# Altium footprint library Trans_Infineon_IRF7821PBF_eec_IPC_B.PcbLib: 1 footprints
Each footprint in its own frame and in the unit in brackets; x right, y up, seen from the top. Pads: shape width x height; smd on the part's side, far side on the other; paste and mask are expansions set on the pad; w line width, h text height; cw(c..) or ccw(c..) is an arc to the next point about the centre after c.
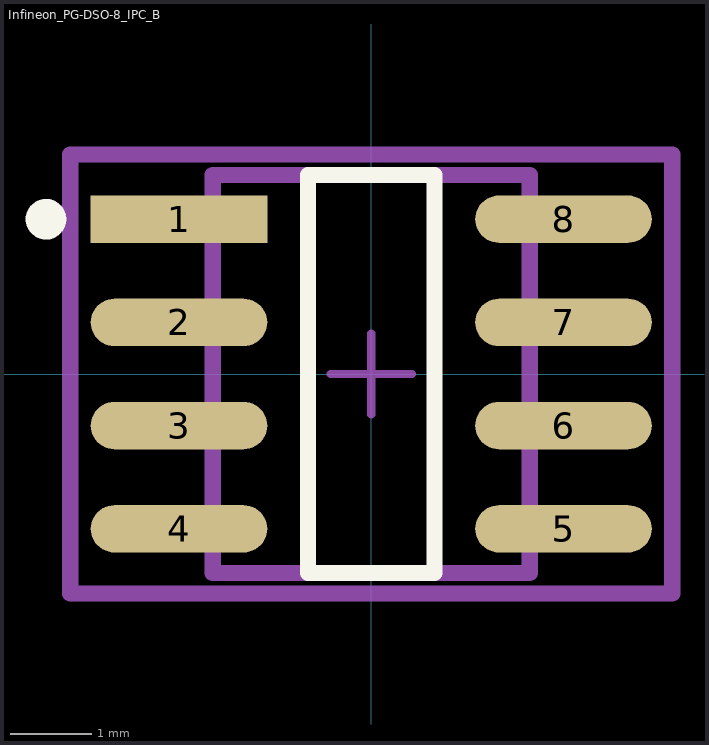
[diagram p0: the footprint, top view; thin cyan lines are the x and y axes]

## Infineon_PG-DSO-8_IPC_B [mil]
pads (8):
  rect 85.59x22.97 smd paste+0 mask+0: 1(-93.15,75)
  rrect100% 85.59x22.97 smd paste+0 mask+0: 2(-93.15,25) 3(-93.15,-25) 4(-93.15,-75) 5(93.15,-75) 6(93.15,-25) 7(93.15,25) 8(93.15,75)
Top Overlay:
  circle w9.84: c-157.6,75 r4.92
  lines w7.87: -30.67,-96.46 30.67,-96.46 30.67,96.46 -30.67,96.46 -30.67,-96.46
Mechanical 10:
  lines w7.87: -145.79,-106.3 145.79,-106.3 145.79,106.3 -145.79,106.3 -145.79,-106.3
  text ".Designator" at 0,7.41 h39.37
Mechanical 12:
  lines w7.87: -76.77,-96.46 76.77,-96.46 76.77,96.46 -76.77,96.46 -76.77,-96.46
Mechanical 15:
  lines w3.94: -19.68,0 19.68,0 ; 0,-19.68 0,19.68
  lines w7.87: -145.79,-106.3 145.79,-106.3 145.79,106.3 -145.79,106.3 -145.79,-106.3
3D body "Trans_Infineon_IRF7821PBF_eec.STEP": height 10, standoff 0, extent -145.79,-106.3 145.79,106.3